# Altium footprint library Temperature Sensor.PcbLib: 26 footprints (part 1 of 2)
Each footprint in its own frame and in the unit in brackets; x right, y up, seen from the top. Pads: shape width x height; smd on the part's side, far side on the other; paste and mask are expansions set on the pad; w line width, h text height; cw(c..) or ccw(c..) is an arc to the next point about the centre after c.
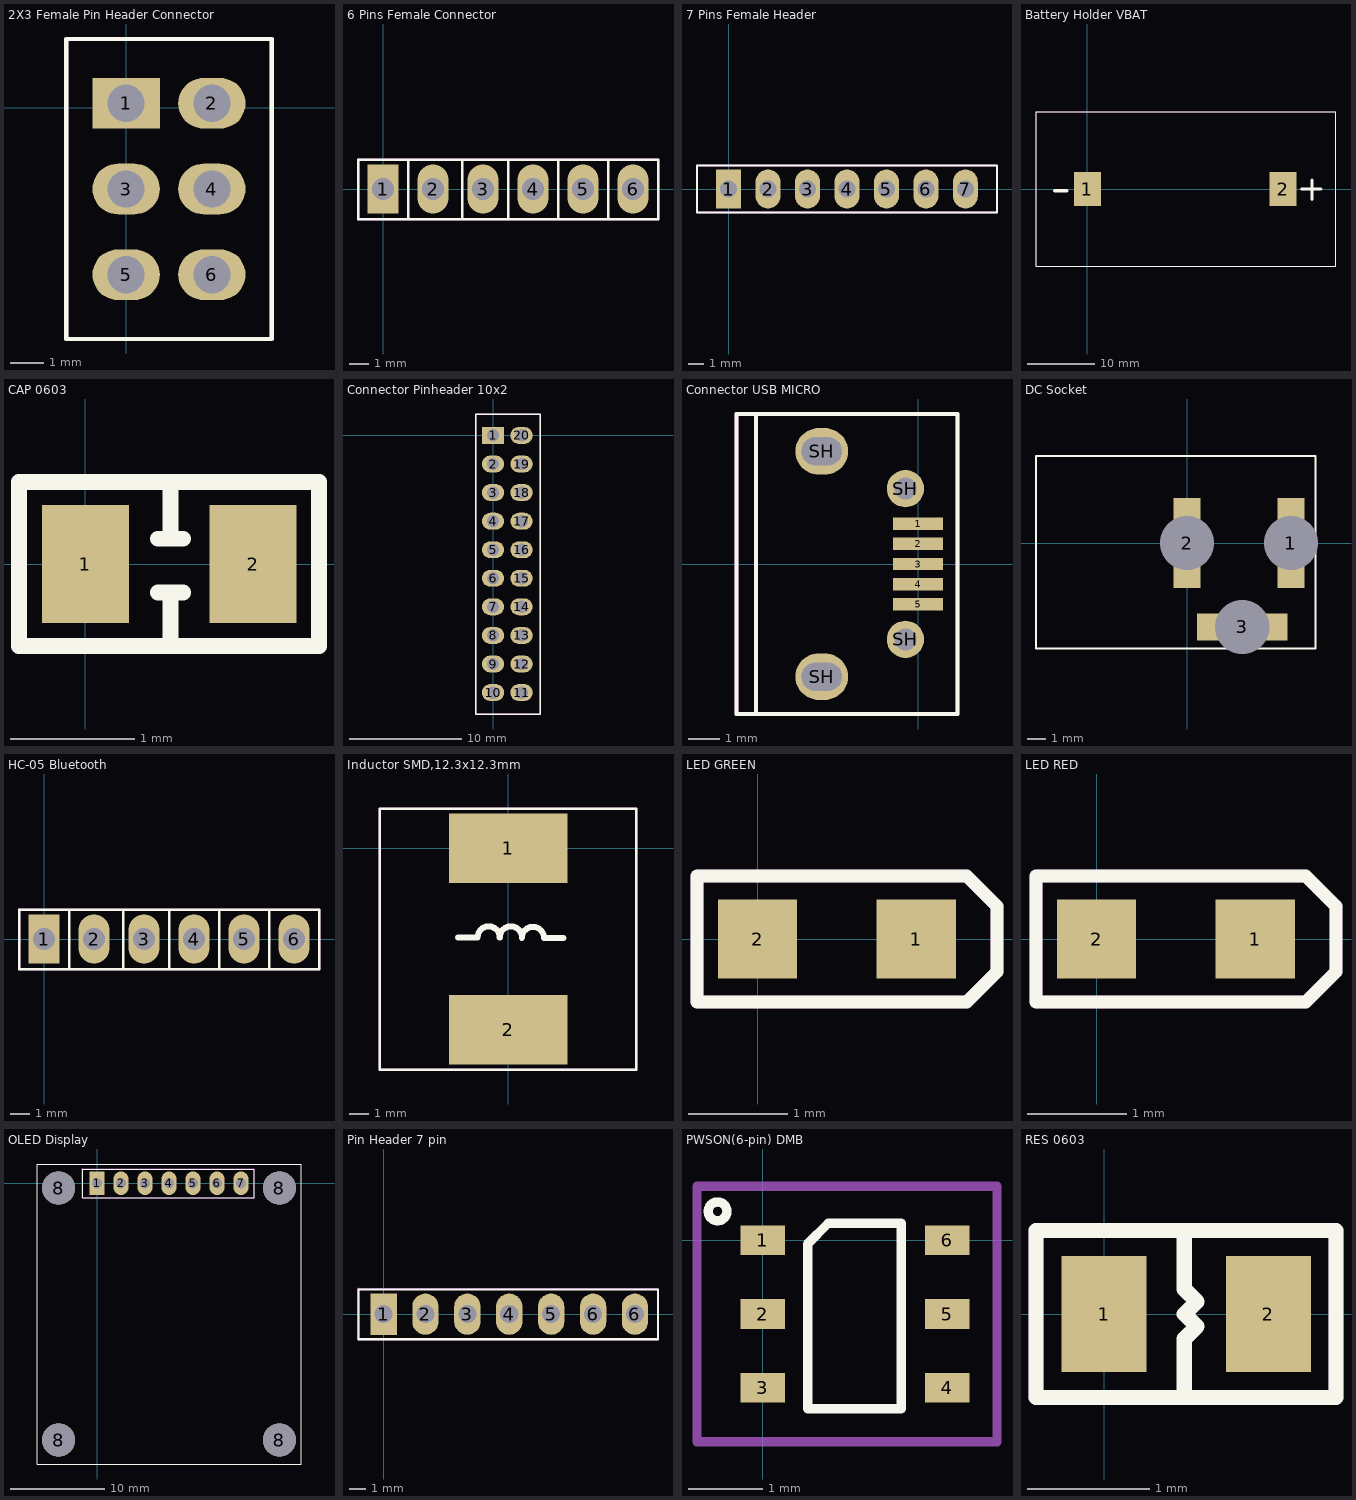
[diagram p0: the footprints below, top view; thin cyan lines are the x and y axes]

## 2X3 Female Pin Header Connector [mm]
pads (6):
  rect 2x1.5 hole 1.1: 1(0,0.127)
  oval 2x1.5 hole 1.1: 2(2.54,0.127) 3(0,-2.413) 4(2.54,-2.413) 5(0,-4.953) 6(2.54,-4.953)
Top Overlay:
  lines w0.127: -1.778,-6.858 -1.778,2.032 4.318,2.032 4.318,-6.858 -1.778,-6.858
Top Courtyard:
  lines w0.127: -1.778,-6.858 -1.778,2.032 4.318,2.032 4.318,-6.858 -1.778,-6.858
Bottom Courtyard:
  lines w0.127: -1.778,-6.858 -1.778,2.032 4.318,2.032 4.318,-6.858 -1.778,-6.858
3D body "User Library-Header 3X2_254MM.STEP": height 8.93, standoff -2.77, extent -1.321,-6.248 3.759,1.39

## 6 Pins Female Connector [mm]
pads (6):
  rect 1.6x2.5 hole 1.1: 1(0,0)
  oval 1.6x2.5 hole 1.1: 2(2.54,0) 3(5.08,0) 4(7.62,0) 5(10.16,0) 6(12.7,0)
Top Overlay:
  lines w0.127: 1.27,-1.524 1.27,1.499 ; 4.013,-1.524 4.013,1.499 ; 6.35,-1.524 6.35,1.499 ; 8.89,-1.511 8.89,1.499 ; 11.43,-1.511 11.43,1.499 ; -1.27,-1.524 -1.27,1.499 13.97,1.499 13.97,-1.524 -1.27,-1.524
Top Courtyard:
  lines w0.127: -1.27,-1.524 13.97,-1.524 13.97,1.499 -1.27,1.524 -1.27,-1.524
3D body "PPPC061LFBN-RC.STEP": height 8.71, standoff -3, extent -1.524,-1.27 14.224,1.27

## 7 Pins Female Header [mm]
pads (7):
  rect 1.6x2.5 hole 1.1: 1(0,0)
  oval 1.6x2.5 hole 1.1: 2(2.54,0) 3(5.08,0) 4(7.62,0) 5(10.16,0) 6(12.7,0) 7(15.24,0)
Top Overlay:
  lines w0.127: -2.032,-1.524 17.272,-1.524 17.272,1.499 -2.032,1.499 -2.032,-1.524
Top Courtyard:
  lines w0.127: 17.272,1.492 17.272,0.738 17.272,-0.77 17.272,-1.524 -2.032,-1.524 -2.032,1.525 17.272,1.493
Bottom Courtyard:
  lines w0.127: -2.032,-1.524 -2.032,1.524 17.272,1.524 17.272,-1.524 -2.032,-1.524
3D body "7-Pin Header - Female - 2.54mm.step": height 5, standoff -3, extent -1.52,-1.25 16.76,1.25

## Battery Holder VBAT [mm] "Battery holder CR2032 SMD Button And Strip Battery Connector ROHS"
pads (2):
  rect 4x5 smd: 1(0,0) 2(29,0)
Top Overlay:
  lines w0.127: -7.62,-11.43 36.83,-11.43 36.83,11.43 -7.62,11.43 -7.62,-11.43
  lines w0.5: -4.826,-0.254 -3.048,-0.254 ; 31.75,0 33.782,0 34.544,0 ; 33.274,-1.524 33.274,1.27
Top Courtyard:
  lines w0.127: -7.62,-11.43 36.83,-11.43 36.83,11.43 -7.62,11.43 -7.62,-11.43
3D body "BU2032SM-HD-G.stp": height 5.3, standoff 0, extent -1.5,-10 30.5,10

## CAP 0603 [mm]
pads (2):
  rect 0.7x0.95 smd: 1(0,0) 2(1.35,0)
Top Overlay:
  lines w0.127: 0.584,-0.229 0.787,-0.229 ; 0.584,0.203 0.787,0.203 ; 0.686,-0.61 0.686,-0.254 ; 0.686,0.203 0.686,0.66 ; -0.533,-0.66 1.88,-0.66 1.88,0.66 -0.533,0.66 -0.533,-0.66
Top Courtyard:
  lines w0.127: -0.533,-0.66 1.88,-0.66 1.88,0.66 -0.533,0.66 -0.533,-0.66
3D body "Ceramic_Capacitor_0603_h32mil.step": height 0.81, standoff 0.01, extent -0.127,-0.4 1.473,0.4

## Connector Pinheader 10x2 [mm] "20 Position Header Connector 0.100\" (2.54mm) Through Hole Gold"
pads (20):
  rect 2x1.5 hole 1.1: 1(0,0)
  oval 2x1.5 hole 1.1: 2(0,-2.54) 3(0,-5.08) 4(0,-7.62) 5(0,-10.16) 6(0,-12.7) 7(0,-15.24) 8(0,-17.78) 9(0,-20.32) 10(0,-22.86) 11(2.54,-22.86) 12(2.54,-20.32) 13(2.54,-17.78) 14(2.54,-15.24) 15(2.54,-12.7) 16(2.54,-10.16) 17(2.54,-7.62) 18(2.54,-5.08) 19(2.54,-2.54) 20(2.54,0)
Top Overlay:
  lines w0.127: -1.524,-24.765 4.191,-24.765 4.191,1.905 -1.524,1.905 -1.524,-24.765
Top Courtyard:
  lines w0.127: -1.524,-24.765 4.191,-24.765 4.191,1.905 -1.524,1.905 -1.524,-24.765
Bottom Courtyard:
  lines w0.127: -1.524,-24.765 4.191,-24.765 4.191,1.905 -1.524,1.905 -1.524,-24.765
3D body "PPPC102LFBN-RC.step": height 8.51, standoff -3.2, extent -1.219,-24.384 3.861,1.524

## Connector USB MICRO [mm] "1.8A USB 2.0 1 Horizontal attachment 5P Mother -20?~+85? Micro-B SMD USB Connectors ROHS"
pads (9):
  rect 1.6x0.4 smd: 1(0,1.3) 2(0,0.65) 3(0,0) 4(0,-0.65) 5(0,-1.3)
  oval 1.7x1.5 hole 0.9 slot 1.3 at 0 deg: SH(-3.1,-3.625) SH(-3.1,3.625)
  round 1.2 hole 0.7: SH(-0.406,2.425) SH(-0.406,-2.425)
Top Overlay:
  lines w0.127: -5.207,-4.826 -5.207,4.826 ; -5.842,-4.826 -5.842,4.826 -4.847,4.826 1.27,4.826 1.27,-4.826 -5.842,-4.826
Top Courtyard:
  lines w0.127: -5.206,-4.826 -5.206,4.826 ; -5.206,-4.542 -5.206,4.826 ; 1.27,-4.542 1.27,4.826 ; -5.206,4.826 1.27,4.826 ; -5.206,4.826 1.27,4.826 ; -5.206,4.826 -5.842,4.826 -5.842,-4.826 1.27,-4.826 1.27,4.826
Bottom Courtyard:
  lines w0.127: -5.206,-4.826 -5.205,4.826 ; -5.206,-4.542 -5.205,4.826 ; 1.271,-4.542 1.271,4.826 ; -5.205,4.826 -5.841,4.826 -5.841,-4.826 1.271,-4.826 1.271,4.826 ; -5.205,4.826 1.271,4.826 ; -5.205,4.826 1.271,4.826
3D body "Micro USB-B Female 5Pin SMD.STEP": height 2.7, standoff -1.02, extent -5.694,-4.015 0.106,4.035

## DC Socket [mm]
pads (3):
  rect 1.5x5 hole 3 square: 1(5.75,0) 2(0,0)
  rect 5x1.5 hole 3 square: 3(3.05,-4.65)
Top Overlay:
  lines w0.127: -8.382,-5.842 -8.382,4.826 7.112,4.826 7.112,-5.842 -8.382,-5.842
3D body "User Library-DC_Power.step": height 11.5, standoff -3, extent -7.962,-4.699 6.438,4.601

## HC-05 Bluetooth [mm]
pads (6):
  rect 1.6x2.5 hole 1.1: 1(0,0)
  oval 1.6x2.5 hole 1.1: 2(2.54,0) 3(5.08,0) 4(7.62,0) 5(10.16,0) 6(12.7,0)
Top Overlay:
  lines w0.127: 1.27,-1.524 1.27,1.499 ; 4.013,-1.524 4.013,1.499 ; 6.35,-1.524 6.35,1.499 ; 8.89,-1.511 8.89,1.499 ; 11.43,-1.511 11.43,1.499 ; -1.27,-1.524 13.97,-1.524 13.97,1.499 -1.27,1.499 -1.27,-1.524
Top Courtyard:
  lines w0.127: -1.27,-1.524 -1.27,1.524 13.97,1.499 13.97,-1.524 -1.27,-1.524
3D body "PPPC061LFBN-RC.STEP": height 8.51, standoff -3.2, extent -1.524,-1.27 14.224,1.27
3D body "Bluetooth Module HC-05 (1).STEP": height 48.26, standoff 5.43, extent -1.523,-0.323 14.477,6.477

## Inductor SMD,12.3x12.3mm [mm] "2.1A 68uH ±20% 140mO SMD,12.3x12.3mm Inductors (SMD) ROHS"
pads (2):
  rect 6x3.5 smd: 1(0,0) 2(0,-9.2)
Top Overlay:
  lines w0.127: -6.5,-11.227 6.475,-11.227 6.475,2.007 -6.5,2.007 -6.5,-11.227
  lines w0.3: -2.54,-4.521 -1.549,-4.521 ; -1.552,-4.521 cw(c-0.991,-4.521) -0.429,-4.521 ; -0.434,-4.521 cw(c0.127,-4.521) 0.688,-4.521 ; 0.683,-4.547 cw(c1.245,-4.547) 1.806,-4.547 ; 1.803,-4.547 2.794,-4.547
Top Courtyard:
  lines w0.127: -6.502,-11.227 6.473,-11.227 6.473,1.723 6.473,2.007 -6.502,2.007 -6.502,1.723 -6.502,-11.227
3D body "L_12x12mm_H8mm.step": height 7.66, standoff 0.1, extent -5.924,-10.566 6.076,1.434

## LED GREEN [mm]
pads (2):
  rect 0.8x0.8 smd: 1(1.6,0) 2(0,0)
Top Overlay:
  lines w0.127: -0.61,-0.635 2.108,-0.635 2.413,-0.33 2.413,0.33 2.108,0.635 -0.61,0.635 -0.61,-0.635
Top Courtyard:
  lines w0.127: -0.61,-0.635 -0.61,0.635 2.108,0.635 2.413,0.33 2.413,-0.33 2.108,-0.635 -0.61,-0.635
3D body "0603 Green.step": height 0.55, standoff 0, extent 0.013,-0.406 1.613,0.394

## LED RED [mm]
pads (2):
  rect 0.8x0.8 smd: 1(1.6,0) 2(0,0)
Top Overlay:
  lines w0.127: -0.61,-0.635 2.108,-0.635 2.413,-0.33 2.413,0.33 2.108,0.635 -0.61,0.635 -0.61,-0.635
Top Courtyard:
  lines w0.127: -0.61,-0.635 -0.61,0.635 2.108,0.635 2.413,0.33 2.413,-0.33 2.108,-0.635 -0.61,-0.635
3D body "0603 Red.step": height 0.55, standoff 0, extent 0.013,-0.4 1.613,0.4

## OLED Display [mm] "0.95\" Inch 7 Pin Colorful 65K SPI OLED Display Module SSD1331 9664 Resolution For 51 STM32 Arduino"
pads (11):
  rect 1.6x2.5 hole 1.1: 1(0,0)
  oval 1.6x2.5 hole 1.1: 2(2.54,0) 3(5.08,0) 4(7.62,0) 5(10.16,0) 6(12.7,0) 7(15.24,0)
  round 3.5 hole 3.5: 8(-4.064,-27.178) 8(-4.064,-0.508) 8(19.304,-27.178) 8(19.304,-0.508)
Top Overlay:
  lines w0.127: -6.35,-29.718 21.59,-29.718 21.59,2.032 -6.35,2.032 -6.35,-29.718 ; -1.524,-1.524 16.637,-1.524 16.637,1.499 -1.524,1.499 -1.524,-1.524
Top Courtyard:
  lines w0.127: -1.549,-1.549 16.637,-1.549 16.637,1.505 -1.549,1.566 -1.549,-1.549
Bottom Courtyard:
  lines w0.127: -1.524,-1.524 -1.524,1.524 16.637,1.524 16.637,-1.524 -1.524,-1.524
3D body "0.96in Color OLED.stp": height 5.64, standoff 2.73, extent -6.096,-29.236 21.285,1.549
3D body "7-Pin Header - Male - 2.54mm.step": height 8.89, standoff -3.05, extent -1.321,-1.245 16.459,1.295

## Pin Header 7 pin [mm] "7 pin header connector 2.54 mm pitch"
pads (7):
  rect 1.6x2.5 hole 1.1: 1(0,0)
  oval 1.6x2.5 hole 1.1: 2(2.54,0) 3(5.08,0) 4(7.62,0) 5(10.16,0) 6(12.7,0) 6(15.24,0)
Top Overlay:
  lines w0.127: -1.524,-1.524 -1.524,1.499 16.637,1.499 16.637,-1.524 -1.524,-1.524
Top Courtyard:
  lines w0.127: -1.549,-1.549 -1.549,1.566 16.637,1.505 16.637,-1.549 -1.549,-1.549
Bottom Courtyard:
  lines w0.127: -1.524,-1.524 16.637,-1.524 16.637,1.524 -1.524,1.524 -1.524,-1.524
3D body "7-Pin Header - Male - 2.54mm.step": height 8.89, standoff -3.05, extent -1.321,-1.245 16.459,1.295

## PWSON(6-pin) DMB [mm] "HDC1080 Low Power, High Accuracy Digital Humidity Sensor with Temperature Sensor"
pads (6):
  rect 0.6x0.4 smd: 1(0,0) 2(0,-1) 3(0,-2) 4(2.5,-2) 5(2.5,-1) 6(2.5,0)
Top Overlay:
  circle w0.127: c-0.61,0.39 r0.127
  lines w0.127: 0.61,-2.286 1.13,-2.286 1.359,-2.286 1.88,-2.286 1.88,0.229 0.889,0.229 0.61,-0.051 0.61,-2.286
Top Courtyard:
  lines w0.127: -0.889,-2.73 3.175,-2.73 3.175,0.73 -0.889,0.73 -0.889,-2.73
3D body: height 0.25, standoff 0, extent -0.24,-2.5 2.78,0.5

## RES 0603 [mm]
pads (2):
  rect 0.7x0.95 smd: 1(0,0) 2(1.35,0)
Top Overlay:
  lines w0.127: 0.66,-0.635 0.66,-0.406 0.66,-0.203 0.762,-0.102 0.66,0 0.762,0.102 0.66,0.203 0.66,0.406 0.66,0.635 ; -0.559,-0.686 1.905,-0.686 1.905,0.686 -0.381,0.686 -0.559,0.686 -0.559,-0.686
Top Courtyard:
  lines w0.127: -0.559,-0.686 -0.559,0.686 1.905,0.686 1.905,-0.686 -0.559,-0.686
3D body "Resistor_0603_Ohm.step": height 0.47, standoff 0.01, extent -0.14,-0.4 1.46,0.4